# Altium footprint library 焊盘.PcbLib: 5 footprints
Each footprint in its own frame and in the unit in brackets; x right, y up, seen from the top. Pads: shape width x height; smd on the part's side, far side on the other; paste and mask are expansions set on the pad; w line width, h text height; cw(c..) or ccw(c..) is an arc to the next point about the centre after c.
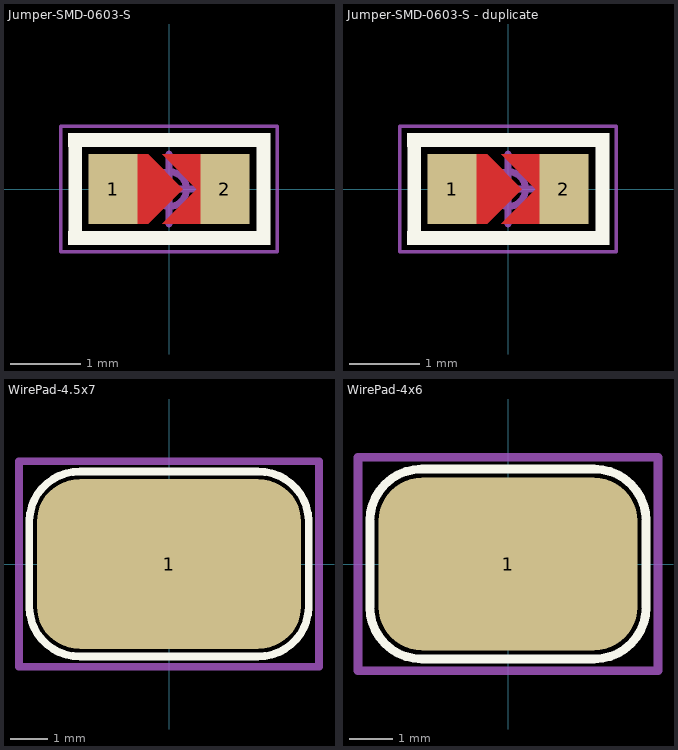
[diagram p0: the footprints below, top view; thin cyan lines are the x and y axes]

## Jumper-SMD-0603-S [mm] "0603 表贴式跳线 有丝印"
height 0.8
pads (2):
  rect 0.7x1 smd: 1(-0.8,0) 2(0.8,0)
Top Layer:
  region: 0.85,0.5 -0.1,0.5 0.4,0 -0.1,-0.5 0.85,-0.5
  region: -0.825,-0.5 -0.3,-0.5 0.2,0 -0.3,0.5 -0.825,0.5
Top Overlay:
  rectangle: -1.443,-0.8 -1.243,0.8
  region: 1.452,0.6 1.452,0.8 -1.448,0.8 -1.448,0.6
  region: -1.448,-0.598 -1.448,-0.798 1.452,-0.798 1.452,-0.598
  rectangle: 1.257,-0.8 1.457,0.8
Top Solder:
  region: -1.25,-0.6 1.25,-0.6 1.25,0.599 -1.25,0.6
Top Designator:
  text ".Designator" at -2.252,-0.226 h1
Top Component Outline:
  lines w0.05: -1.55,-0.9 1.55,-0.9 1.55,0.9 -1.55,0.9 -1.55,-0.9
Top Component Center:
  circle w0.1: c0,0 r0.25
  lines w0.1: -0.5,0 0.5,0 ; 0,-0.5 0,0.5
3D body "R0603.STEP": height 0.45, standoff 0, extent -0.8,-0.4 0.8,0.4

## Jumper-SMD-0603-S - duplicate [mm] "0603 表贴式跳线 有丝印"
height 0.8
pads (2):
  rect 0.7x1 smd: 1(-0.8,0) 2(0.8,0)
Top Layer:
  region: -0.825,-0.5 -0.3,-0.5 0.2,0 -0.3,0.5 -0.825,0.5
  region: 0.85,0.5 -0.1,0.5 0.4,0 -0.1,-0.5 0.85,-0.5
Top Overlay:
  rectangle: 1.257,-0.8 1.457,0.8
  region: -1.448,-0.598 -1.448,-0.798 1.452,-0.798 1.452,-0.598
  region: 1.452,0.6 1.452,0.8 -1.448,0.8 -1.448,0.6
  rectangle: -1.443,-0.8 -1.243,0.8
Top Solder:
  region: -1.25,-0.6 1.25,-0.6 1.25,0.599 -1.25,0.6
Top Designator:
  text ".Designator" at -2.252,-0.226 h1
Top Component Outline:
  lines w0.05: -1.55,-0.9 -1.55,0.9 1.55,0.9 1.55,-0.9 -1.55,-0.9
Top Component Center:
  circle w0.1: c0,0 r0.25
  lines w0.1: -0.5,0 0.5,0 ; 0,-0.5 0,0.5
3D body "R0603.STEP": height 0.45, standoff 0, extent -0.8,-0.4 0.8,0.4

## PCBComponent_1 [mm]

## WirePad-4.5x7 [mm] "焊线盘 表贴 4mm x 6mm"
pads (1):
  rrect50% 7x4.5 smd: 1(0,0)
Top Overlay:
  lines w0.203: -3.7,-1.15 ccw(c-2.375,-1.125) -2.35,-2.45 2.35,-2.45 ccw(c2.375,-1.125) 3.7,-1.15 3.7,1.15 ccw(c2.375,1.125) 2.35,2.45 -2.35,2.45 ccw(c-2.375,1.125) -3.7,1.15 -3.7,-1.15
Top Designator:
  text ".Designator" at -2.252,-0.226 h1
Top Component Outline:
  lines w0.2: -3.975,-2.725 -3.975,2.725 3.975,2.725 3.975,-2.725 -3.975,-2.725
Top Component Center:
  circle w0.1: c0,0 r0.5
  lines w0.1: -1,0 1,0 ; 0,-1 0,1

## WirePad-4x6 [mm] "焊线盘 表贴 4.5mm x 7mm"
pads (1):
  rrect50% 6x4 smd: 1(0,0)
Top Overlay:
  lines w0.203: -3.2,-1 ccw(c-2,-1) -2,-2.2 2,-2.2 ccw(c2,-1) 3.2,-1 3.2,1 ccw(c2,1) 2,2.2 -2,2.2 ccw(c-2,1) -3.2,1 -3.2,-1
Top Designator:
  text ".Designator" at -2.252,-0.226 h1
Top Component Outline:
  lines w0.2: -3.475,-2.475 3.475,-2.475 3.475,2.475 -3.475,2.475 -3.475,-2.475
Top Component Center:
  circle w0.1: c0,0 r0.5
  lines w0.1: -1,0 1,0 ; 0,-1 0,1